# Altium schematic symbol library Abracon LLC.SchLib: 4 symbols
Pins are listed as number, name and electrical type; pins without a type are passive.

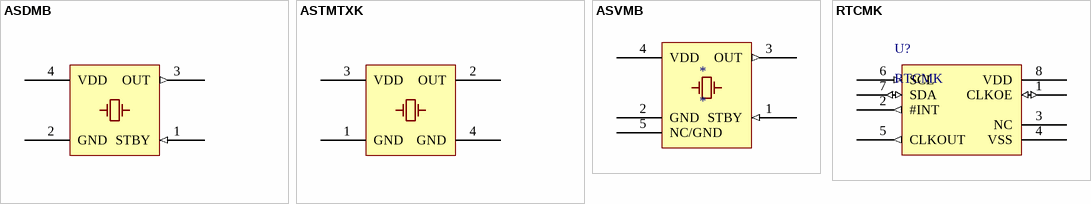
[diagram p0: symbols ASDMB to RTCMK]

## ASDMB
designator U?
pins: 1 STBY (in), 2 GND (power), 3 OUT (out), 4 VDD (power)

## ASTMTXK
designator U?
pins: 1 GND, 2 OUT, 3 VDD, 4 GND

## ASVMB
designator *
pins: 1 STBY (in), 2 GND (power), 3 OUT (out), 4 VDD (power), 5 NC/GND (power)

## RTCMK
designator U?
pins: 1 CLKOE (io), 2 #INT (out), 3 NC, 4 VSS (power), 5 CLKOUT (out), 6 SCL (in), 7 SDA (io), 8 VDD (power)